# EAGLE library part LIS3DE_AD7280A (library pendulum_control_board)
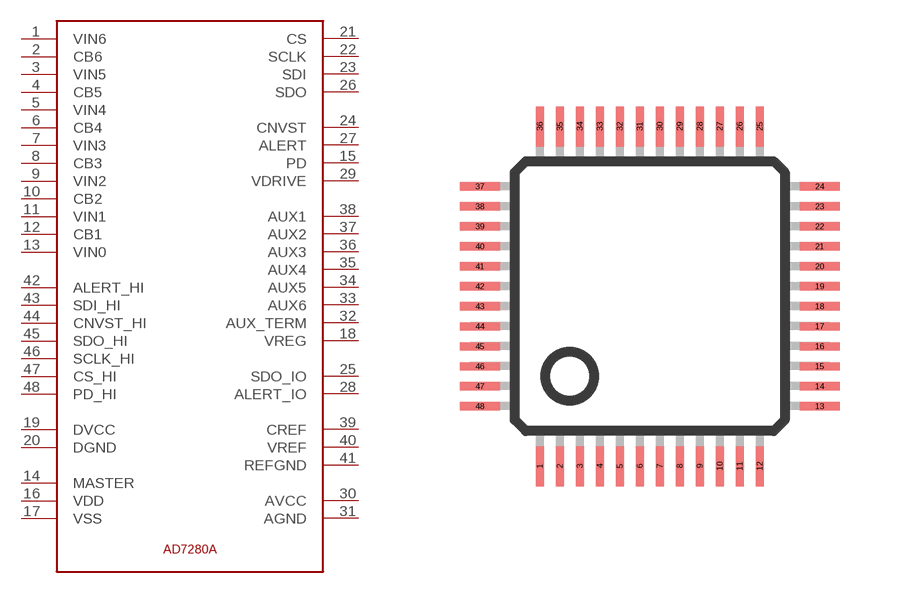
[diagram p1: symbol with the pads of LIS3DE_LQFP48_N; footprint LIS3DE_LQFP48_N]

Designator prefix -

## LIS3DE_AD7280A  [LIS3DE_LQFP48_N]
1  VIN6
2  CB6
3  VIN5
4  CB5
5  VIN4
6  CB4
7  VIN3
8  CB3
9  VIN2
10  CB2
11  VIN1
12  CB1
13  VIN0
14  MASTER
15  PD
16  VDD
17  VSS
18  VREG
19  DVCC
20  DGND
21  CS
22  SCLK
23  SDI
24  CNVST
25  SDO_IO
26  SDO
27  ALERT
28  ALERT_IO
29  VDRIVE
30  AVCC
31  AGND
32  AUX_TERM
33  AUX6
34  AUX5
35  AUX4
36  AUX3
37  AUX2
38  AUX1
39  CREF
40  VREF
41  REFGND
42  ALERT_HI
43  SDI_HI
44  CNVST_HI
45  SDO_HI
46  SCLK_HI
47  CS_HI
48  PD_HI

## Footprint LIS3DE_LQFP48_N (pad centres in mm)
48-pin plastic LQFP (FPT-48P-M26) www.fma.fujitsu.com/pdf/e713717.pdf
smd 0.2 x 1: 1 -2.75,-4.25; 2 -2.25,-4.25; 3 -1.75,-4.25; 4 -1.25,-4.25; 5 -0.75,-4.25; 6 -0.25,-4.25; 7 0.25,-4.25; 8 0.75,-4.25; 9 1.25,-4.25; 10 1.75,-4.25; 11 2.25,-4.25; 12 2.75,-4.25; 25 2.75,4.25; 26 2.25,4.25; 27 1.75,4.25; 28 1.25,4.25; 29 0.75,4.25; 30 0.25,4.25; 31 -0.25,4.25; 32 -0.75,4.25; 33 -1.25,4.25; 34 -1.75,4.25; 35 -2.25,4.25; 36 -2.75,4.25
smd 1 x 0.2: 13 4.25,-2.75; 14 4.25,-2.25; 15 4.25,-1.75; 16 4.25,-1.25; 17 4.25,-0.75; 18 4.25,-0.25; 19 4.25,0.25; 20 4.25,0.75; 21 4.25,1.25; 22 4.25,1.75; 23 4.25,2.25; 24 4.25,2.75; 37 -4.25,2.75; 38 -4.25,2.25; 39 -4.25,1.75; 40 -4.25,1.25; 41 -4.25,0.75; 42 -4.25,0.25; 43 -4.25,-0.25; 44 -4.25,-0.75; 45 -4.25,-1.25; 46 -4.25,-1.75; 47 -4.25,-2.25; 48 -4.25,-2.75